# Altium integrated library ind-WE-LHMI (rev21a).IntLib: 164 symbols (part 2 of 3)
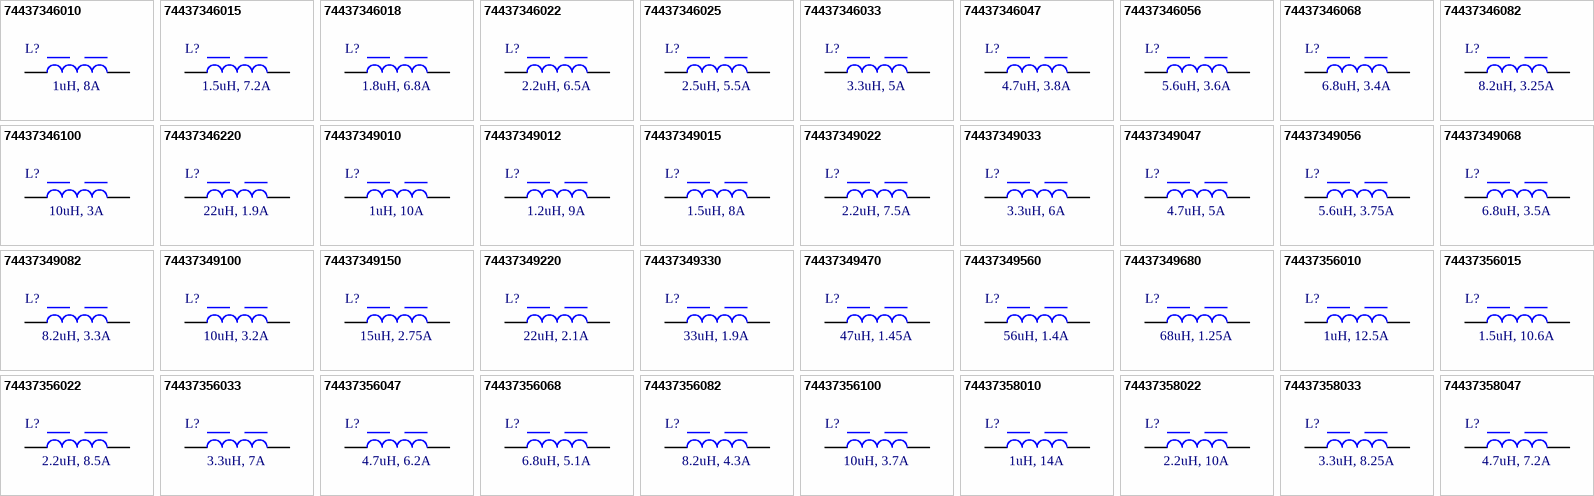
[diagram p5: symbols 74437346010 to 74437358047]

## 74437349560
designator L?, comment 56uH, 1.4A
WE-LHMI SMT Power Inductor, size 7050, 56uH, 1.4A; Manufacturer: Wurth Elektronik; Manufacturer Part Number: 74437349560; Self Resonant Frequency: 6MHz; DC Resistance typ.: 342mOhm; DC Resistance max.: 396mOhm; Saturation Current @30%: 2.7A; ComponentLink1Description: Manufacturer; ComponentLink1URL: http://www.we-online.de; ComponentLink2Description: Datasheet; ComponentLink2URL: https://www.we-online.com/catalog/datasheet/74437349560.pdf; Mounting Technology: SMT; Operating Temperature: -40 to +125degC; Packaging: Tape and Reel; Inductance: 56uH; Rated Current: 1.4A; Saturation Current @10%: 1.4A; Size: 7050; Height: 4.8mm; Length: 6.6mm; Width: 6.6mm
footprint WE-LHMI_7050
pins: 1, 2

## 74437349680
designator L?, comment 68uH, 1.25A
WE-LHMI SMT Power Inductor, size 7050, 68uH, 1.25A; Manufacturer: Wurth Elektronik; Manufacturer Part Number: 74437349680; Self Resonant Frequency: 3.5MHz; DC Resistance typ.: 386mOhm; DC Resistance max.: 445mOhm; Saturation Current @10%: 1.45A; Saturation Current @30%: 3.8A; ComponentLink1Description: Manufacturer; ComponentLink1URL: http://www.we-online.de; ComponentLink2Description: Datasheet; ComponentLink2URL: https://www.we-online.com/catalog/datasheet/74437349680.pdf; Mounting Technology: SMT; Operating Temperature: -40 to +125degC; Packaging: Tape and Reel; Inductance: 68uH; Rated Current: 1.25A; Size: 7050; Height: 4.8mm; Length: 6.6mm; Width: 6.6mm
footprint WE-LHMI_7050
pins: 1, 2

## 74437356010
designator L?, comment 1uH, 12.5A
WE-LHMI SMT Power Inductor, size 8030, 1uH, 12.5A; Manufacturer: Wurth Elektronik; Manufacturer Part Number: 74437356010; Self Resonant Frequency: 44MHz; DC Resistance typ.: 5.1mOhm; DC Resistance max.: 8.35mOhm; Saturation Current @10%: 15.8A; Saturation Current @30%: 34.2A; ComponentLink1Description: Manufacturer; ComponentLink1URL: http://www.we-online.de; ComponentLink2Description: Datasheet; ComponentLink2URL: https://www.we-online.com/catalog/datasheet/74437356010.pdf; Mounting Technology: SMT; Operating Temperature: -40 to +125degC; Packaging: Tape and Reel; Inductance: 1uH; Rated Current: 12.5A; Size: 8030; Height: 3mm; Length: 9.2mm; Width: 8.5mm
footprint WE-LHMI_8030
pins: 1, 2

## 74437356015
designator L?, comment 1.5uH, 10.6A
WE-LHMI SMT Power Inductor, size 8030, 1.5uH, 10.6A; Manufacturer: Wurth Elektronik; Manufacturer Part Number: 74437356015; Self Resonant Frequency: 32MHz; DC Resistance typ.: 8.3mOhm; DC Resistance max.: 13.3mOhm; Saturation Current @10%: 13.5A; Saturation Current @30%: 27.2A; ComponentLink1Description: Manufacturer; ComponentLink1URL: http://www.we-online.de; ComponentLink2Description: Datasheet; ComponentLink2URL: https://www.we-online.com/catalog/datasheet/74437356015.pdf; Mounting Technology: SMT; Operating Temperature: -40 to +125degC; Packaging: Tape and Reel; Inductance: 1.5uH; Rated Current: 10.6A; Size: 8030; Height: 3mm; Length: 9.2mm; Width: 8.5mm
footprint WE-LHMI_8030
pins: 1, 2

## 74437356022
designator L?, comment 2.2uH, 8.5A
WE-LHMI SMT Power Inductor, size 8030, 2.2uH, 8.5A; Manufacturer: Wurth Elektronik; Manufacturer Part Number: 74437356022; Self Resonant Frequency: 24MHz; DC Resistance typ.: 13.6mOhm; DC Resistance max.: 20.3mOhm; Saturation Current @10%: 10A; Saturation Current @30%: 19.6A; ComponentLink1Description: Manufacturer; ComponentLink1URL: http://www.we-online.de; ComponentLink2Description: Datasheet; ComponentLink2URL: https://www.we-online.com/catalog/datasheet/74437356022.pdf; Mounting Technology: SMT; Operating Temperature: -40 to +125degC; Packaging: Tape and Reel; Inductance: 2.2uH; Rated Current: 8.5A; Size: 8030; Height: 3mm; Length: 9.2mm; Width: 8.5mm
footprint WE-LHMI_8030
pins: 1, 2

## 74437356033
designator L?, comment 3.3uH, 7A
WE-LHMI SMT Power Inductor, size 8030, 3.3uH, 7A; Manufacturer: Wurth Elektronik; Manufacturer Part Number: 74437356033; Self Resonant Frequency: 19MHz; DC Resistance typ.: 18.8mOhm; DC Resistance max.: 27.4mOhm; Saturation Current @10%: 8.8A; Saturation Current @30%: 16.1A; ComponentLink1Description: Manufacturer; ComponentLink1URL: http://www.we-online.de; ComponentLink2Description: Datasheet; ComponentLink2URL: https://www.we-online.com/catalog/datasheet/74437356033.pdf; Mounting Technology: SMT; Operating Temperature: -40 to +125degC; Packaging: Tape and Reel; Inductance: 3.3uH; Rated Current: 7A; Size: 8030; Height: 3mm; Length: 9.2mm; Width: 8.5mm
footprint WE-LHMI_8030
pins: 1, 2

## 74437356047
designator L?, comment 4.7uH, 6.2A
WE-LHMI SMT Power Inductor, size 8030, 4.7uH, 6.2A; Manufacturer: Wurth Elektronik; Manufacturer Part Number: 74437356047; Self Resonant Frequency: 16MHz; DC Resistance typ.: 26.6mOhm; DC Resistance max.: 34.2mOhm; Saturation Current @10%: 8.1A; Saturation Current @30%: 15.2A; ComponentLink1Description: Manufacturer; ComponentLink1URL: http://www.we-online.de; ComponentLink2Description: Datasheet; ComponentLink2URL: https://www.we-online.com/catalog/datasheet/74437356047.pdf; Mounting Technology: SMT; Operating Temperature: -40 to +125degC; Packaging: Tape and Reel; Inductance: 4.7uH; Rated Current: 6.2A; Size: 8030; Height: 3mm; Length: 9.2mm; Width: 8.5mm
footprint WE-LHMI_8030
pins: 1, 2

## 74437356068
designator L?, comment 6.8uH, 5.1A
WE-LHMI SMT Power Inductor, size 8030, 6.8uH, 5.1A; Manufacturer: Wurth Elektronik; Manufacturer Part Number: 74437356068; Self Resonant Frequency: 14MHz; DC Resistance typ.: 35.5mOhm; DC Resistance max.: 49.3mOhm; Saturation Current @10%: 6.9A; Saturation Current @30%: 14.2A; ComponentLink1Description: Manufacturer; ComponentLink1URL: http://www.we-online.de; ComponentLink2Description: Datasheet; ComponentLink2URL: https://www.we-online.com/catalog/datasheet/74437356068.pdf; Mounting Technology: SMT; Operating Temperature: -40 to +125degC; Packaging: Tape and Reel; Inductance: 6.8uH; Rated Current: 5.1A; Size: 8030; Height: 3mm; Length: 9.2mm; Width: 8.5mm
footprint WE-LHMI_8030
pins: 1, 2

## 74437356082
designator L?, comment 8.2uH, 4.3A
WE-LHMI SMT Power Inductor, size 8030, 8.2uH, 4.3A; Manufacturer: Wurth Elektronik; Manufacturer Part Number: 74437356082; Self Resonant Frequency: 11MHz; DC Resistance typ.: 56.4mOhm; DC Resistance max.: 59.3mOhm; Saturation Current @10%: 6.3A; Saturation Current @30%: 14A; ComponentLink1Description: Manufacturer; ComponentLink1URL: http://www.we-online.de; ComponentLink2Description: Datasheet; ComponentLink2URL: https://www.we-online.com/catalog/datasheet/74437356082.pdf; Mounting Technology: SMT; Operating Temperature: -40 to +125degC; Packaging: Tape and Reel; Inductance: 8.2uH; Rated Current: 4.3A; Size: 8030; Height: 3mm; Length: 9.2mm; Width: 8.5mm
footprint WE-LHMI_8030
pins: 1, 2

## 74437356100
designator L?, comment 10uH, 3.7A
WE-LHMI SMT Power Inductor, size 8030, 10uH, 3.7A; Manufacturer: Wurth Elektronik; Manufacturer Part Number: 74437356100; Self Resonant Frequency: 10MHz; DC Resistance typ.: 61mOhm; DC Resistance max.: 71.2mOhm; Saturation Current @10%: 6.2A; Saturation Current @30%: 13.4A; ComponentLink1Description: Manufacturer; ComponentLink1URL: http://www.we-online.de; ComponentLink2Description: Datasheet; ComponentLink2URL: https://www.we-online.com/catalog/datasheet/74437356100.pdf; Mounting Technology: SMT; Operating Temperature: -40 to +125degC; Packaging: Tape and Reel; Inductance: 10uH; Rated Current: 3.7A; Size: 8030; Height: 3mm; Length: 9.2mm; Width: 8.5mm
footprint WE-LHMI_8030
pins: 1, 2

## 74437358010
designator L?, comment 1uH, 14A
WE-LHMI SMT Power Inductor, size 8040, 1uH, 14A; Manufacturer: Wurth Elektronik; Manufacturer Part Number: 74437358010; Self Resonant Frequency: 42MHz; DC Resistance typ.: 3.65mOhm; DC Resistance max.: 4.63mOhm; Saturation Current @10%: 20.6A; Saturation Current @30%: 43.1A; ComponentLink1Description: Manufacturer; ComponentLink1URL: http://www.we-online.de; ComponentLink2Description: Datasheet; ComponentLink2URL: https://www.we-online.com/catalog/datasheet/74437358010.pdf; Mounting Technology: SMT; Operating Temperature: -40 to +125degC; Packaging: Tape and Reel; Inductance: 1uH; Rated Current: 14A; Size: 8040; Height: 4mm; Length: 9.2mm; Width: 8.5mm
footprint WE-LHMI_8040
pins: 1, 2

## 74437358022
designator L?, comment 2.2uH, 10A
WE-LHMI SMT Power Inductor, size 8040, 2.2uH, 10A; Manufacturer: Wurth Elektronik; Manufacturer Part Number: 74437358022; Self Resonant Frequency: 29MHz; DC Resistance typ.: 8.7mOhm; DC Resistance max.: 9.41mOhm; Saturation Current @10%: 17.2A; Saturation Current @30%: 36.8A; ComponentLink1Description: Manufacturer; ComponentLink1URL: http://www.we-online.de; ComponentLink2Description: Datasheet; ComponentLink2URL: https://www.we-online.com/catalog/datasheet/74437358022.pdf; Mounting Technology: SMT; Operating Temperature: -40 to +125degC; Packaging: Tape and Reel; Inductance: 2.2uH; Rated Current: 10A; Size: 8040; Height: 4mm; Length: 9.2mm; Width: 8.5mm
footprint WE-LHMI_8040
pins: 1, 2

## 74437358033
designator L?, comment 3.3uH, 8.25A
WE-LHMI SMT Power Inductor, size 8040, 3.3uH, 8.25A; Manufacturer: Wurth Elektronik; Manufacturer Part Number: 74437358033; Self Resonant Frequency: 20MHz; DC Resistance typ.: 12.35mOhm; DC Resistance max.: 14.9mOhm; Saturation Current @10%: 12.4A; Saturation Current @30%: 27A; ComponentLink1Description: Manufacturer; ComponentLink1URL: http://www.we-online.de; ComponentLink2Description: Datasheet; ComponentLink2URL: https://www.we-online.com/catalog/datasheet/74437358033.pdf; Mounting Technology: SMT; Operating Temperature: -40 to +125degC; Packaging: Tape and Reel; Inductance: 3.3uH; Rated Current: 8.25A; Size: 8040; Height: 4mm; Length: 9.2mm; Width: 8.5mm
footprint WE-LHMI_8040
pins: 1, 2

## 74437358047
designator L?, comment 4.7uH, 7.2A
WE-LHMI SMT Power Inductor, size 8040, 4.7uH, 7.2A; Manufacturer: Wurth Elektronik; Manufacturer Part Number: 74437358047; Self Resonant Frequency: 19MHz; DC Resistance typ.: 19.7mOhm; DC Resistance max.: 22.6mOhm; Saturation Current @10%: 10.8A; Saturation Current @30%: 22.9A; ComponentLink1Description: Manufacturer; ComponentLink1URL: http://www.we-online.de; ComponentLink2Description: Datasheet; ComponentLink2URL: https://www.we-online.com/catalog/datasheet/74437358047.pdf; Mounting Technology: SMT; Operating Temperature: -40 to +125degC; Packaging: Tape and Reel; Inductance: 4.7uH; Rated Current: 7.2A; Size: 8040; Height: 4mm; Length: 9.2mm; Width: 8.5mm
footprint WE-LHMI_8040
pins: 1, 2

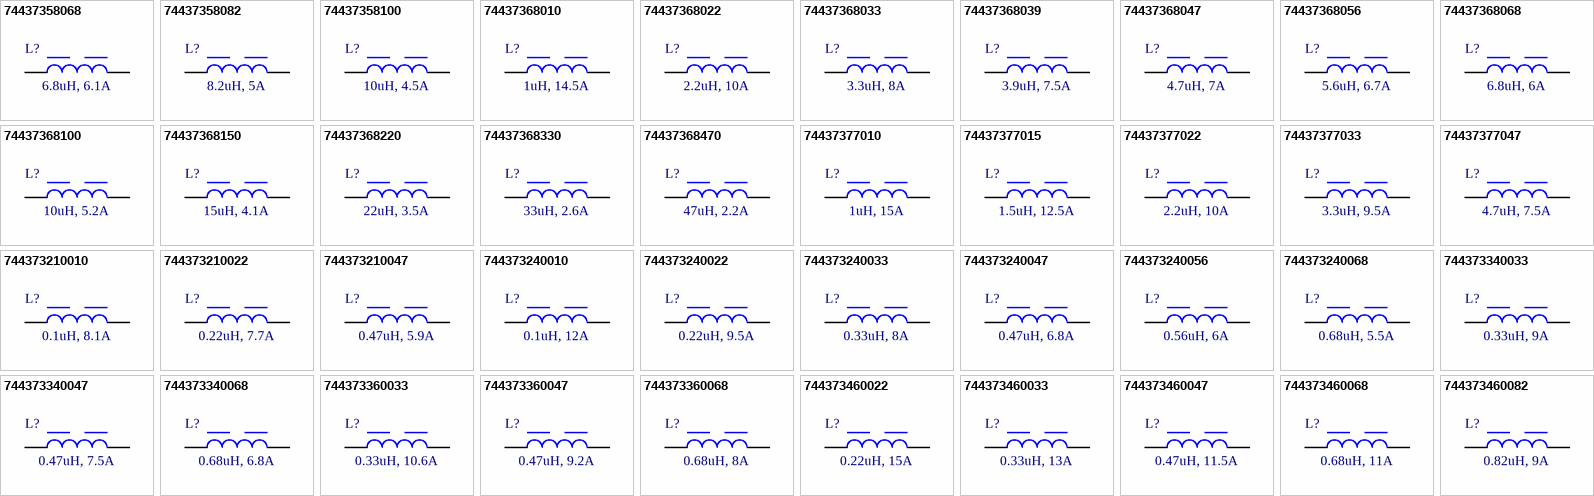
[diagram p2: symbols 74437358068 to 744373460082]

## 74437358068
designator L?, comment 6.8uH, 6.1A
WE-LHMI SMT Power Inductor, size 8040, 6.8uH, 6.1A; Manufacturer: Wurth Elektronik; Manufacturer Part Number: 74437358068; Self Resonant Frequency: 12MHz; DC Resistance typ.: 29.2mOhm; DC Resistance max.: 33.4mOhm; Saturation Current @10%: 8.5A; Saturation Current @30%: 17.7A; ComponentLink1Description: Manufacturer; ComponentLink1URL: http://www.we-online.de; ComponentLink2Description: Datasheet; ComponentLink2URL: https://www.we-online.com/catalog/datasheet/74437358068.pdf; Mounting Technology: SMT; Operating Temperature: -40 to +125degC; Packaging: Tape and Reel; Inductance: 6.8uH; Rated Current: 6.1A; Size: 8040; Height: 4mm; Length: 9.2mm; Width: 8.5mm
footprint WE-LHMI_8040
pins: 1, 2

## 74437358082
designator L?, comment 8.2uH, 5A
WE-LHMI SMT Power Inductor, size 8040, 8.2uH, 5A; Manufacturer: Wurth Elektronik; Manufacturer Part Number: 74437358082; Self Resonant Frequency: 10MHz; DC Resistance typ.: 41.1mOhm; DC Resistance max.: 45mOhm; Saturation Current @10%: 8.6A; Saturation Current @30%: 16.6A; ComponentLink1Description: Manufacturer; ComponentLink1URL: http://www.we-online.de; ComponentLink2Description: Datasheet; ComponentLink2URL: https://www.we-online.com/catalog/datasheet/74437358082.pdf; Mounting Technology: SMT; Operating Temperature: -40 to +125degC; Packaging: Tape and Reel; Inductance: 8.2uH; Rated Current: 5A; Size: 8040; Height: 4mm; Length: 9.2mm; Width: 8.5mm
footprint WE-LHMI_8040
pins: 1, 2

## 74437358100
designator L?, comment 10uH, 4.5A
WE-LHMI SMT Power Inductor, size 8040, 10uH, 4.5A; Manufacturer: Wurth Elektronik; Manufacturer Part Number: 74437358100; Self Resonant Frequency: 9MHz; DC Resistance typ.: 48.1mOhm; DC Resistance max.: 51.8mOhm; Saturation Current @10%: 8.3A; Saturation Current @30%: 15.9A; ComponentLink1Description: Manufacturer; ComponentLink1URL: http://www.we-online.de; ComponentLink2Description: Datasheet; ComponentLink2URL: https://www.we-online.com/catalog/datasheet/74437358100.pdf; Mounting Technology: SMT; Operating Temperature: -40 to +125degC; Packaging: Tape and Reel; Inductance: 10uH; Rated Current: 4.5A; Size: 8040; Height: 4mm; Length: 9.2mm; Width: 8.5mm
footprint WE-LHMI_8040
pins: 1, 2

## 74437368010
designator L?, comment 1uH, 14.5A
WE-LHMI SMT Power Inductor, size 1040, 1uH, 14.5A; Manufacturer: Wurth Elektronik; Manufacturer Part Number: 74437368010; Self Resonant Frequency: 45MHz; DC Resistance typ.: 3mOhm; DC Resistance max.: 3.3mOhm; Saturation Current @10%: 22.7A; Saturation Current @30%: 48.3A; ComponentLink1Description: Manufacturer; ComponentLink1URL: http://www.we-online.de; ComponentLink2Description: Datasheet; ComponentLink2URL: https://www.we-online.com/catalog/datasheet/74437368010.pdf; Mounting Technology: SMT; Operating Temperature: -40 to +125degC; Packaging: Tape and Reel; Inductance: 1uH; Rated Current: 14.5A; Size: 1040; Height: 3.8mm; Length: 10mm; Width: 10mm
footprint WE-LHMI_1040
pins: 1, 2

## 74437368022
designator L?, comment 2.2uH, 10A
WE-LHMI SMT Power Inductor, size 1040, 2.2uH, 10A; Manufacturer: Wurth Elektronik; Manufacturer Part Number: 74437368022; Self Resonant Frequency: 27MHz; DC Resistance typ.: 6.5mOhm; DC Resistance max.: 7mOhm; Saturation Current @10%: 18.1A; Saturation Current @30%: 38.7A; ComponentLink1Description: Manufacturer; ComponentLink1URL: http://www.we-online.de; ComponentLink2Description: Datasheet; ComponentLink2URL: https://www.we-online.com/catalog/datasheet/74437368022.pdf; Mounting Technology: SMT; Operating Temperature: -40 to +125degC; Packaging: Tape and Reel; Inductance: 2.2uH; Rated Current: 10A; Size: 1040; Height: 3.8mm; Length: 10mm; Width: 10mm
footprint WE-LHMI_1040
pins: 1, 2

## 74437368033
designator L?, comment 3.3uH, 8A
WE-LHMI SMT Power Inductor, size 1040, 3.3uH, 8A; Manufacturer: Wurth Elektronik; Manufacturer Part Number: 74437368033; Self Resonant Frequency: 22MHz; DC Resistance typ.: 10.8mOhm; DC Resistance max.: 11.8mOhm; Saturation Current @10%: 15.6A; Saturation Current @30%: 31.2A; ComponentLink1Description: Manufacturer; ComponentLink1URL: http://www.we-online.de; ComponentLink2Description: Datasheet; ComponentLink2URL: https://www.we-online.com/catalog/datasheet/74437368033.pdf; Mounting Technology: SMT; Operating Temperature: -40 to +125degC; Packaging: Tape and Reel; Inductance: 3.3uH; Rated Current: 8A; Size: 1040; Height: 3.8mm; Length: 10mm; Width: 10mm
footprint WE-LHMI_1040
pins: 1, 2

## 74437368039
designator L?, comment 3.9uH, 7.5A
WE-LHMI SMT Power Inductor, size 1040, 3.9uH, 7.5A; Manufacturer: Wurth Elektronik; Manufacturer Part Number: 74437368039; Self Resonant Frequency: 17MHz; DC Resistance typ.: 12.6mOhm; DC Resistance max.: 14.5mOhm; Saturation Current @10%: 12A; Saturation Current @30%: 26.8A; ComponentLink1Description: Manufacturer; ComponentLink1URL: http://www.we-online.de; ComponentLink2Description: Datasheet; ComponentLink2URL: https://www.we-online.com/catalog/datasheet/74437368039.pdf; Mounting Technology: SMT; Operating Temperature: -40 to +125degC; Packaging: Tape and Reel; Inductance: 3.9uH; Rated Current: 7.5A; Size: 1040; Height: 3.8mm; Length: 10mm; Width: 10mm
footprint WE-LHMI_1040
pins: 1, 2

## 74437368047
designator L?, comment 4.7uH, 7A
WE-LHMI SMT Power Inductor, size 1040, 4.7uH, 7A; Manufacturer: Wurth Elektronik; Manufacturer Part Number: 74437368047; Self Resonant Frequency: 16MHz; DC Resistance typ.: 15mOhm; DC Resistance max.: 15.5mOhm; Saturation Current @10%: 11.7A; Saturation Current @30%: 26A; ComponentLink1Description: Manufacturer; ComponentLink1URL: http://www.we-online.de; ComponentLink2Description: Datasheet; ComponentLink2URL: https://www.we-online.com/catalog/datasheet/74437368047.pdf; Mounting Technology: SMT; Operating Temperature: -40 to +125degC; Packaging: Tape and Reel; Inductance: 4.7uH; Rated Current: 7A; Size: 1040; Height: 3.8mm; Length: 10mm; Width: 10mm
footprint WE-LHMI_1040
pins: 1, 2

## 74437368056
designator L?, comment 5.6uH, 6.7A
WE-LHMI SMT Power Inductor, size 1040, 5.6uH, 6.7A; Manufacturer: Wurth Elektronik; Manufacturer Part Number: 74437368056; Self Resonant Frequency: 13MHz; DC Resistance typ.: 17.6mOhm; DC Resistance max.: 19.3mOhm; Saturation Current @10%: 9.4A; Saturation Current @30%: 19.4A; ComponentLink1Description: Manufacturer; ComponentLink1URL: http://www.we-online.de; ComponentLink2Description: Datasheet; ComponentLink2URL: https://www.we-online.com/catalog/datasheet/74437368056.pdf; Mounting Technology: SMT; Operating Temperature: -40 to +125degC; Packaging: Tape and Reel; Inductance: 5.6uH; Rated Current: 6.7A; Size: 1040; Height: 3.8mm; Length: 10mm; Width: 10mm
footprint WE-LHMI_1040
pins: 1, 2

## 74437368068
designator L?, comment 6.8uH, 6A
WE-LHMI SMT Power Inductor, size 1040, 6.8uH, 6A; Manufacturer: Wurth Elektronik; Manufacturer Part Number: 74437368068; Self Resonant Frequency: 13MHz; DC Resistance typ.: 17.5mOhm; DC Resistance max.: 23.3mOhm; Saturation Current @10%: 8A; Saturation Current @30%: 17.4A; ComponentLink1Description: Manufacturer; ComponentLink1URL: http://www.we-online.de; ComponentLink2Description: Datasheet; ComponentLink2URL: https://www.we-online.com/catalog/datasheet/74437368068.pdf; Mounting Technology: SMT; Operating Temperature: -40 to +125degC; Packaging: Tape and Reel; Inductance: 6.8uH; Rated Current: 6A; Size: 1040; Height: 3.8mm; Length: 10mm; Width: 10mm
footprint WE-LHMI_1040
pins: 1, 2

## 74437368100
designator L?, comment 10uH, 5.2A
WE-LHMI SMT Power Inductor, size 1040, 10uH, 5.2A; Manufacturer: Wurth Elektronik; Manufacturer Part Number: 74437368100; Self Resonant Frequency: 12MHz; DC Resistance typ.: 27mOhm; DC Resistance max.: 30mOhm; Saturation Current @10%: 7.9A; Saturation Current @30%: 16.8A; ComponentLink1Description: Manufacturer; ComponentLink1URL: http://www.we-online.de; ComponentLink2Description: Datasheet; ComponentLink2URL: https://www.we-online.com/catalog/datasheet/74437368100.pdf; Mounting Technology: SMT; Operating Temperature: -40 to +125degC; Packaging: Tape and Reel; Inductance: 10uH; Rated Current: 5.2A; Size: 1040; Height: 3.8mm; Length: 10mm; Width: 10mm
footprint WE-LHMI_1040
pins: 1, 2

## 74437368150
designator L?, comment 15uH, 4.1A
WE-LHMI SMT Power Inductor, size 1040, 15uH, 4.1A; Manufacturer: Wurth Elektronik; Manufacturer Part Number: 74437368150; Self Resonant Frequency: 8MHz; DC Resistance typ.: 40mOhm; DC Resistance max.: 45mOhm; Saturation Current @10%: 5.55A; Saturation Current @30%: 11.8A; ComponentLink1Description: Manufacturer; ComponentLink1URL: http://www.we-online.de; ComponentLink2Description: Datasheet; ComponentLink2URL: https://www.we-online.com/catalog/datasheet/74437368150.pdf; Mounting Technology: SMT; Operating Temperature: -40 to +125degC; Packaging: Tape and Reel; Inductance: 15uH; Rated Current: 4.1A; Size: 1040; Height: 3.8mm; Length: 10mm; Width: 10mm
footprint WE-LHMI_1040
pins: 1, 2

## 74437368220
designator L?, comment 22uH, 3.5A
WE-LHMI SMT Power Inductor, size 1040, 22uH, 3.5A; Manufacturer: Wurth Elektronik; Manufacturer Part Number: 74437368220; Self Resonant Frequency: 7MHz; DC Resistance typ.: 64mOhm; DC Resistance max.: 74mOhm; Saturation Current @10%: 5A; Saturation Current @30%: 10.8A; ComponentLink1Description: Manufacturer; ComponentLink1URL: http://www.we-online.de; ComponentLink2Description: Datasheet; ComponentLink2URL: https://www.we-online.com/catalog/datasheet/74437368220.pdf; Mounting Technology: SMT; Operating Temperature: -40 to +125degC; Packaging: Tape and Reel; Inductance: 22uH; Rated Current: 3.5A; Size: 1040; Height: 3.8mm; Length: 10mm; Width: 10mm
footprint WE-LHMI_1040
pins: 1, 2

## 74437368330
designator L?, comment 33uH, 2.6A
WE-LHMI SMT Power Inductor, size 1040, 33uH, 2.6A; Manufacturer: Wurth Elektronik; Manufacturer Part Number: 74437368330; Self Resonant Frequency: 6MHz; DC Resistance typ.: 92mOhm; DC Resistance max.: 112mOhm; Saturation Current @10%: 3.3A; Saturation Current @30%: 7.4A; ComponentLink1Description: Manufacturer; ComponentLink1URL: http://www.we-online.de; ComponentLink2Description: Datasheet; ComponentLink2URL: https://www.we-online.com/catalog/datasheet/74437368330.pdf; Mounting Technology: SMT; Operating Temperature: -40 to +125degC; Packaging: Tape and Reel; Inductance: 33uH; Rated Current: 2.6A; Size: 1040; Height: 3.8mm; Length: 10mm; Width: 10mm
footprint WE-LHMI_1040
pins: 1, 2

## 74437368470
designator L?, comment 47uH, 2.2A
WE-LHMI SMT Power Inductor, size 1040, 47uH, 2.2A; Manufacturer: Wurth Elektronik; Manufacturer Part Number: 74437368470; Self Resonant Frequency: 5MHz; DC Resistance typ.: 145mOhm; DC Resistance max.: 167mOhm; Saturation Current @10%: 2.55A; Saturation Current @30%: 6.7A; ComponentLink1Description: Manufacturer; ComponentLink1URL: http://www.we-online.de; ComponentLink2Description: Datasheet; ComponentLink2URL: https://www.we-online.com/catalog/datasheet/74437368470.pdf; Mounting Technology: SMT; Operating Temperature: -40 to +125degC; Packaging: Tape and Reel; Inductance: 47uH; Rated Current: 2.2A; Size: 1040; Height: 3.8mm; Length: 10mm; Width: 10mm
footprint WE-LHMI_1040
pins: 1, 2

## 74437377010
designator L?, comment 1uH, 15A
WE-LHMI SMT Power Inductor, size 1335, 1uH, 15A; Manufacturer: Wurth Elektronik; Manufacturer Part Number: 74437377010; Self Resonant Frequency: 41MHz; DC Resistance typ.: 2.7mOhm; DC Resistance max.: 3.5mOhm; Saturation Current @10%: 15.4A; Saturation Current @30%: 38A; ComponentLink1Description: Manufacturer; ComponentLink1URL: http://www.we-online.de; ComponentLink2Description: Datasheet; ComponentLink2URL: https://www.we-online.com/catalog/datasheet/74437377010.pdf; Mounting Technology: SMT; Operating Temperature: -40 to +125degC; Packaging: Tape and Reel; Inductance: 1uH; Rated Current: 15A; Size: 1335; Height: 3.3mm; Length: 12.6mm; Width: 12.6mm
footprint WE-LHMI_1335
pins: 1, 2

## 74437377015
designator L?, comment 1.5uH, 12.5A
WE-LHMI SMT Power Inductor, size 1335, 1.5uH, 12.5A; Manufacturer: Wurth Elektronik; Manufacturer Part Number: 74437377015; Self Resonant Frequency: 30MHz; DC Resistance typ.: 4.7mOhm; DC Resistance max.: 5.5mOhm; Saturation Current @10%: 14.3A; Saturation Current @30%: 33.8A; ComponentLink1Description: Manufacturer; ComponentLink1URL: http://www.we-online.de; ComponentLink2Description: Datasheet; ComponentLink2URL: https://www.we-online.com/catalog/datasheet/74437377015.pdf; Mounting Technology: SMT; Operating Temperature: -40 to +125degC; Packaging: Tape and Reel; Inductance: 1.5uH; Rated Current: 12.5A; Size: 1335; Height: 3.3mm; Length: 12.6mm; Width: 12.6mm
footprint WE-LHMI_1335
pins: 1, 2

## 74437377022
designator L?, comment 2.2uH, 10A
WE-LHMI SMT Power Inductor, size 1335, 2.2uH, 10A; Manufacturer: Wurth Elektronik; Manufacturer Part Number: 74437377022; Self Resonant Frequency: 22MHz; DC Resistance typ.: 7.2mOhm; DC Resistance max.: 8mOhm; Saturation Current @10%: 14.2A; Saturation Current @30%: 31.2A; ComponentLink1Description: Manufacturer; ComponentLink1URL: http://www.we-online.de; ComponentLink2Description: Datasheet; ComponentLink2URL: https://www.we-online.com/catalog/datasheet/74437377022.pdf; Mounting Technology: SMT; Operating Temperature: -40 to +125degC; Packaging: Tape and Reel; Inductance: 2.2uH; Rated Current: 10A; Size: 1335; Height: 3.3mm; Length: 12.6mm; Width: 12.6mm
footprint WE-LHMI_1335
pins: 1, 2

## 74437377033
designator L?, comment 3.3uH, 9.5A
WE-LHMI SMT Power Inductor, size 1335, 3.3uH, 9.5A; Manufacturer: Wurth Elektronik; Manufacturer Part Number: 74437377033; Self Resonant Frequency: 17MHz; DC Resistance typ.: 9mOhm; DC Resistance max.: 11mOhm; Saturation Current @10%: 13.3A; Saturation Current @30%: 30.9A; ComponentLink1Description: Manufacturer; ComponentLink1URL: http://www.we-online.de; ComponentLink2Description: Datasheet; ComponentLink2URL: https://www.we-online.com/catalog/datasheet/74437377033.pdf; Mounting Technology: SMT; Operating Temperature: -40 to +125degC; Packaging: Tape and Reel; Inductance: 3.3uH; Rated Current: 9.5A; Size: 1335; Height: 3.3mm; Length: 12.6mm; Width: 12.6mm
footprint WE-LHMI_1335
pins: 1, 2

## 74437377047
designator L?, comment 4.7uH, 7.5A
WE-LHMI SMT Power Inductor, size 1335, 4.7uH, 7.5A; Manufacturer: Wurth Elektronik; Manufacturer Part Number: 74437377047; Self Resonant Frequency: 13MHz; DC Resistance typ.: 13mOhm; DC Resistance max.: 15mOhm; Saturation Current @10%: 12A; Saturation Current @30%: 25.1A; ComponentLink1Description: Manufacturer; ComponentLink1URL: http://www.we-online.de; ComponentLink2Description: Datasheet; ComponentLink2URL: https://www.we-online.com/catalog/datasheet/74437377047.pdf; Mounting Technology: SMT; Operating Temperature: -40 to +125degC; Packaging: Tape and Reel; Inductance: 4.7uH; Rated Current: 7.5A; Size: 1335; Height: 3.3mm; Length: 12.6mm; Width: 12.6mm
footprint WE-LHMI_1335
pins: 1, 2

## 744373210010
designator L?, comment 0.1uH, 8.1A
WE-LHMI SMT Power Inductor, size 4012, 0.1uH, 8.1A; Manufacturer: Wurth Elektronik; Manufacturer Part Number: 744373210010; Self Resonant Frequency: 365MHz; DC Resistance typ.: 4.3mOhm; DC Resistance max.: 5.5mOhm; Saturation Current @10%: 16.1A; Saturation Current @30%: 29.6A; ComponentLink1Description: Manufacturer; ComponentLink1URL: http://www.we-online.de; ComponentLink2Description: Datasheet; ComponentLink2URL: https://www.we-online.com/catalog/datasheet/744373210010.pdf; Mounting Technology: SMT; Operating Temperature: -40 to +125degC; Packaging: Tape and Reel; Inductance: 0.1uH; Rated Current: 8.1A; Size: 4012; Height: 1mm; Length: 4.06mm; Width: 4.06mm
footprint WE-LHMI_4012
pins: 1, 2

## 744373210022
designator L?, comment 0.22uH, 7.7A
WE-LHMI SMT Power Inductor, size 4012, 0.22uH, 7.7A; Manufacturer: Wurth Elektronik; Manufacturer Part Number: 744373210022; Self Resonant Frequency: 230MHz; DC Resistance typ.: 6.6mOhm; DC Resistance max.: 8mOhm; Saturation Current @10%: 11.1A; Saturation Current @30%: 21.5A; ComponentLink1Description: Manufacturer; ComponentLink1URL: http://www.we-online.de; ComponentLink2Description: Datasheet; ComponentLink2URL: https://www.we-online.com/catalog/datasheet/744373210022.pdf; Mounting Technology: SMT; Operating Temperature: -40 to +125degC; Packaging: Tape and Reel; Inductance: 0.22uH; Rated Current: 7.7A; Size: 4012; Height: 1mm; Length: 4.06mm; Width: 4.06mm
footprint WE-LHMI_4012
pins: 1, 2

## 744373210047
designator L?, comment 0.47uH, 5.9A
WE-LHMI SMT Power Inductor, size 4012, 0.47uH, 5.9A; Manufacturer: Wurth Elektronik; Manufacturer Part Number: 744373210047; Self Resonant Frequency: 120MHz; DC Resistance typ.: 18mOhm; DC Resistance max.: 20mOhm; Saturation Current @10%: 6.8A; Saturation Current @30%: 12.5A; ComponentLink1Description: Manufacturer; ComponentLink1URL: http://www.we-online.de; ComponentLink2Description: Datasheet; ComponentLink2URL: https://www.we-online.com/catalog/datasheet/744373210047.pdf; Mounting Technology: SMT; Operating Temperature: -40 to +125degC; Packaging: Tape and Reel; Inductance: 0.47uH; Rated Current: 5.9A; Size: 4012; Height: 1mm; Length: 4.06mm; Width: 4.06mm
footprint WE-LHMI_4012
pins: 1, 2

## 744373240010
designator L?, comment 0.1uH, 12A
WE-LHMI SMT Power Inductor, size 4020, 0.1uH, 12A; Manufacturer: Wurth Elektronik; Manufacturer Part Number: 744373240010; Self Resonant Frequency: 323MHz; DC Resistance typ.: 3.2mOhm; DC Resistance max.: 4mOhm; Saturation Current @10%: 20.9A; Saturation Current @30%: 37.6A; ComponentLink1Description: Manufacturer; ComponentLink1URL: http://www.we-online.de; ComponentLink2Description: Datasheet; ComponentLink2URL: https://www.we-online.com/catalog/datasheet/744373240010.pdf; Mounting Technology: SMT; Operating Temperature: -40 to +125degC; Packaging: Tape and Reel; Inductance: 0.1uH; Rated Current: 12A; Size: 4020; Height: 1.8mm; Length: 4.06mm; Width: 4.06mm
footprint WE-LHMI_4020
pins: 1, 2

## 744373240022
designator L?, comment 0.22uH, 9.5A
WE-LHMI SMT Power Inductor, size 4020, 0.22uH, 9.5A; Manufacturer: Wurth Elektronik; Manufacturer Part Number: 744373240022; Self Resonant Frequency: 195MHz; DC Resistance typ.: 6.6mOhm; DC Resistance max.: 7.3mOhm; Saturation Current @10%: 10.8A; Saturation Current @30%: 22.3A; ComponentLink1Description: Manufacturer; ComponentLink1URL: http://www.we-online.de; ComponentLink2Description: Datasheet; ComponentLink2URL: https://www.we-online.com/catalog/datasheet/744373240022.pdf; Mounting Technology: SMT; Operating Temperature: -40 to +125degC; Packaging: Tape and Reel; Inductance: 0.22uH; Rated Current: 9.5A; Size: 4020; Height: 1.8mm; Length: 4.06mm; Width: 4.06mm
footprint WE-LHMI_4020
pins: 1, 2

## 744373240033
designator L?, comment 0.33uH, 8A
WE-LHMI SMT Power Inductor, size 4020, 0.33uH, 8A; Manufacturer: Wurth Elektronik; Manufacturer Part Number: 744373240033; Self Resonant Frequency: 143MHz; DC Resistance typ.: 7.8mOhm; DC Resistance max.: 8.6mOhm; Saturation Current @10%: 11.2A; Saturation Current @30%: 22A; ComponentLink1Description: Manufacturer; ComponentLink1URL: http://www.we-online.de; ComponentLink2Description: Datasheet; ComponentLink2URL: https://www.we-online.com/catalog/datasheet/744373240033.pdf; Mounting Technology: SMT; Operating Temperature: -40 to +125degC; Packaging: Tape and Reel; Inductance: 0.33uH; Rated Current: 8A; Size: 4020; Height: 1.8mm; Length: 4.06mm; Width: 4.06mm
footprint WE-LHMI_4020
pins: 1, 2

## 744373240047
designator L?, comment 0.47uH, 6.8A
WE-LHMI SMT Power Inductor, size 4020, 0.47uH, 6.8A; Manufacturer: Wurth Elektronik; Manufacturer Part Number: 744373240047; Self Resonant Frequency: 122MHz; DC Resistance typ.: 11.2mOhm; DC Resistance max.: 14mOhm; Saturation Current @10%: 10.4A; Saturation Current @30%: 19.6A; ComponentLink1Description: Manufacturer; ComponentLink1URL: http://www.we-online.de; ComponentLink2Description: Datasheet; ComponentLink2URL: https://www.we-online.com/catalog/datasheet/744373240047.pdf; Mounting Technology: SMT; Operating Temperature: -40 to +125degC; Packaging: Tape and Reel; Inductance: 0.47uH; Rated Current: 6.8A; Size: 4020; Height: 1.8mm; Length: 4.06mm; Width: 4.06mm
footprint WE-LHMI_4020
pins: 1, 2

## 744373240056
designator L?, comment 0.56uH, 6A
WE-LHMI SMT Power Inductor, size 4020, 0.56uH, 6A; Manufacturer: Wurth Elektronik; Manufacturer Part Number: 744373240056; Self Resonant Frequency: 104MHz; DC Resistance typ.: 13.5mOhm; DC Resistance max.: 16mOhm; Saturation Current @10%: 6.7A; Saturation Current @30%: 13A; ComponentLink1Description: Manufacturer; ComponentLink1URL: http://www.we-online.de; ComponentLink2Description: Datasheet; ComponentLink2URL: https://www.we-online.com/catalog/datasheet/744373240056.pdf; Mounting Technology: SMT; Operating Temperature: -40 to +125degC; Packaging: Tape and Reel; Inductance: 0.56uH; Rated Current: 6A; Size: 4020; Height: 1.8mm; Length: 4.06mm; Width: 4.06mm
footprint WE-LHMI_4020
pins: 1, 2

## 744373240068
designator L?, comment 0.68uH, 5.5A
WE-LHMI SMT Power Inductor, size 4020, 0.68uH, 5.5A; Manufacturer: Wurth Elektronik; Manufacturer Part Number: 744373240068; Self Resonant Frequency: 90MHz; DC Resistance typ.: 16mOhm; DC Resistance max.: 19mOhm; Saturation Current @10%: 7.1A; Saturation Current @30%: 14A; ComponentLink1Description: Manufacturer; ComponentLink1URL: http://www.we-online.de; ComponentLink2Description: Datasheet; ComponentLink2URL: https://www.we-online.com/catalog/datasheet/744373240068.pdf; Mounting Technology: SMT; Operating Temperature: -40 to +125degC; Packaging: Tape and Reel; Inductance: 0.68uH; Rated Current: 5.5A; Size: 4020; Height: 1.8mm; Length: 4.06mm; Width: 4.06mm
footprint WE-LHMI_4020
pins: 1, 2

## 744373340033
designator L?, comment 0.33uH, 9A
WE-LHMI SMT Power Inductor, size 5020, 0.33uH, 9A; Manufacturer: Wurth Elektronik; Manufacturer Part Number: 744373340033; Self Resonant Frequency: 100MHz; DC Resistance typ.: 6.3mOhm; DC Resistance max.: 7.3mOhm; Saturation Current @10%: 14.7A; Saturation Current @30%: 29.3A; ComponentLink1Description: Manufacturer; ComponentLink1URL: http://www.we-online.de; ComponentLink2Description: Datasheet; ComponentLink2URL: https://www.we-online.com/catalog/datasheet/744373340033.pdf; Mounting Technology: SMT; Operating Temperature: -40 to +125degC; Packaging: Tape and Reel; Inductance: 0.33uH; Rated Current: 9A; Size: 5020; Height: 1.8mm; Length: 5.2mm; Width: 5.2mm
footprint WE-LHMI_5020
pins: 1, 2

## 744373340047
designator L?, comment 0.47uH, 7.5A
WE-LHMI SMT Power Inductor, size 5020, 0.47uH, 7.5A; Manufacturer: Wurth Elektronik; Manufacturer Part Number: 744373340047; Self Resonant Frequency: 95MHz; DC Resistance typ.: 7.3mOhm; DC Resistance max.: 8.6mOhm; Saturation Current @10%: 9.6A; Saturation Current @30%: 19.8A; ComponentLink1Description: Manufacturer; ComponentLink1URL: http://www.we-online.de; ComponentLink2Description: Datasheet; ComponentLink2URL: https://www.we-online.com/catalog/datasheet/744373340047.pdf; Mounting Technology: SMT; Operating Temperature: -40 to +125degC; Packaging: Tape and Reel; Inductance: 0.47uH; Rated Current: 7.5A; Size: 5020; Height: 1.8mm; Length: 5.2mm; Width: 5.2mm
footprint WE-LHMI_5020
pins: 1, 2

## 744373340068
designator L?, comment 0.68uH, 6.8A
WE-LHMI SMT Power Inductor, size 5020, 0.68uH, 6.8A; Manufacturer: Wurth Elektronik; Manufacturer Part Number: 744373340068; Self Resonant Frequency: 90MHz; DC Resistance typ.: 11mOhm; DC Resistance max.: 12.4mOhm; Saturation Current @10%: 9.8A; Saturation Current @30%: 17.8A; ComponentLink1Description: Manufacturer; ComponentLink1URL: http://www.we-online.de; ComponentLink2Description: Datasheet; ComponentLink2URL: https://www.we-online.com/catalog/datasheet/744373340068.pdf; Mounting Technology: SMT; Operating Temperature: -40 to +125degC; Packaging: Tape and Reel; Inductance: 0.68uH; Rated Current: 6.8A; Size: 5020; Height: 1.8mm; Length: 5.2mm; Width: 5.2mm
footprint WE-LHMI_5020
pins: 1, 2

## 744373360033
designator L?, comment 0.33uH, 10.6A
WE-LHMI SMT Power Inductor, size 5030, 0.33uH, 10.6A; Manufacturer: Wurth Elektronik; Manufacturer Part Number: 744373360033; Self Resonant Frequency: 120MHz; DC Resistance typ.: 4.3mOhm; DC Resistance max.: 5mOhm; Saturation Current @10%: 15A; Saturation Current @30%: 29.3A; ComponentLink1Description: Manufacturer; ComponentLink1URL: http://www.we-online.de; ComponentLink2Description: Datasheet; ComponentLink2URL: https://www.we-online.com/catalog/datasheet/744373360033.pdf; Mounting Technology: SMT; Operating Temperature: -40 to +125degC; Packaging: Tape and Reel; Inductance: 0.33uH; Rated Current: 10.6A; Size: 5030; Height: 2.8mm; Length: 5.2mm; Width: 5.2mm
footprint WE-LHMI_5030
pins: 1, 2

## 744373360047
designator L?, comment 0.47uH, 9.2A
WE-LHMI SMT Power Inductor, size 5030, 0.47uH, 9.2A; Manufacturer: Wurth Elektronik; Manufacturer Part Number: 744373360047; Self Resonant Frequency: 100MHz; DC Resistance typ.: 6.4mOhm; DC Resistance max.: 7.4mOhm; Saturation Current @10%: 10.8A; Saturation Current @30%: 21.5A; ComponentLink1Description: Manufacturer; ComponentLink1URL: http://www.we-online.de; ComponentLink2Description: Datasheet; ComponentLink2URL: https://www.we-online.com/catalog/datasheet/744373360047.pdf; Mounting Technology: SMT; Operating Temperature: -40 to +125degC; Packaging: Tape and Reel; Inductance: 0.47uH; Rated Current: 9.2A; Size: 5030; Height: 2.8mm; Length: 5.2mm; Width: 5.2mm
footprint WE-LHMI_5030
pins: 1, 2

## 744373360068
designator L?, comment 0.68uH, 8A
WE-LHMI SMT Power Inductor, size 5030, 0.68uH, 8A; Manufacturer: Wurth Elektronik; Manufacturer Part Number: 744373360068; Self Resonant Frequency: 90MHz; DC Resistance typ.: 10mOhm; DC Resistance max.: 12mOhm; Saturation Current @10%: 10.2A; Saturation Current @30%: 19.3A; ComponentLink1Description: Manufacturer; ComponentLink1URL: http://www.we-online.de; ComponentLink2Description: Datasheet; ComponentLink2URL: https://www.we-online.com/catalog/datasheet/744373360068.pdf; Mounting Technology: SMT; Operating Temperature: -40 to +125degC; Packaging: Tape and Reel; Inductance: 0.68uH; Rated Current: 8A; Size: 5030; Height: 2.8mm; Length: 5.2mm; Width: 5.2mm
footprint WE-LHMI_5030
pins: 1, 2

## 744373460022
designator L?, comment 0.22uH, 15A
WE-LHMI SMT Power Inductor, size 7030, 0.22uH, 15A; Manufacturer: Wurth Elektronik; Manufacturer Part Number: 744373460022; Self Resonant Frequency: 149MHz; DC Resistance typ.: 2.1mOhm; DC Resistance max.: 2.8mOhm; Saturation Current @10%: 29.9A; Saturation Current @30%: 54.3A; ComponentLink1Description: Manufacturer; ComponentLink1URL: http://www.we-online.de; ComponentLink2Description: Datasheet; ComponentLink2URL: https://www.we-online.com/catalog/datasheet/744373460022.pdf; Mounting Technology: SMT; Operating Temperature: -40 to +125degC; Packaging: Tape and Reel; Inductance: 0.22uH; Rated Current: 15A; Size: 7030; Height: 2.8mm; Length: 6.6mm; Width: 6.6mm
footprint WE-LHMI_7030
pins: 1, 2

## 744373460033
designator L?, comment 0.33uH, 13A
WE-LHMI SMT Power Inductor, size 7030, 0.33uH, 13A; Manufacturer: Wurth Elektronik; Manufacturer Part Number: 744373460033; Self Resonant Frequency: 124MHz; DC Resistance typ.: 3.5mOhm; DC Resistance max.: 3.9mOhm; Saturation Current @10%: 27.1A; Saturation Current @30%: 47A; ComponentLink1Description: Manufacturer; ComponentLink1URL: http://www.we-online.de; ComponentLink2Description: Datasheet; ComponentLink2URL: https://www.we-online.com/catalog/datasheet/744373460033.pdf; Mounting Technology: SMT; Operating Temperature: -40 to +125degC; Packaging: Tape and Reel; Inductance: 0.33uH; Rated Current: 13A; Size: 7030; Height: 2.8mm; Length: 6.6mm; Width: 6.6mm
footprint WE-LHMI_7030
pins: 1, 2

## 744373460047
designator L?, comment 0.47uH, 11.5A
WE-LHMI SMT Power Inductor, size 7030, 0.47uH, 11.5A; Manufacturer: Wurth Elektronik; Manufacturer Part Number: 744373460047; Self Resonant Frequency: 91MHz; DC Resistance typ.: 4mOhm; DC Resistance max.: 4.2mOhm; Saturation Current @10%: 21.4A; Saturation Current @30%: 37.8A; ComponentLink1Description: Manufacturer; ComponentLink1URL: http://www.we-online.de; ComponentLink2Description: Datasheet; ComponentLink2URL: https://www.we-online.com/catalog/datasheet/744373460047.pdf; Mounting Technology: SMT; Operating Temperature: -40 to +125degC; Packaging: Tape and Reel; Inductance: 0.47uH; Rated Current: 11.5A; Size: 7030; Height: 2.8mm; Length: 6.6mm; Width: 6.6mm
footprint WE-LHMI_7030
pins: 1, 2

## 744373460068
designator L?, comment 0.68uH, 11A
WE-LHMI SMT Power Inductor, size 7030, 0.68uH, 11A; Manufacturer: Wurth Elektronik; Manufacturer Part Number: 744373460068; Self Resonant Frequency: 72MHz; DC Resistance typ.: 4.8mOhm; DC Resistance max.: 5.5mOhm; Saturation Current @10%: 15.9A; Saturation Current @30%: 31.6A; ComponentLink1Description: Manufacturer; ComponentLink1URL: http://www.we-online.de; ComponentLink2Description: Datasheet; ComponentLink2URL: https://www.we-online.com/catalog/datasheet/744373460068.pdf; Mounting Technology: SMT; Operating Temperature: -40 to +125degC; Packaging: Tape and Reel; Inductance: 0.68uH; Rated Current: 11A; Size: 7030; Height: 2.8mm; Length: 6.6mm; Width: 6.6mm
footprint WE-LHMI_7030
pins: 1, 2

## 744373460082
designator L?, comment 0.82uH, 9A
WE-LHMI SMT Power Inductor, size 7030, 0.82uH, 9A; Manufacturer: Wurth Elektronik; Manufacturer Part Number: 744373460082; Self Resonant Frequency: 60MHz; DC Resistance typ.: 6.7mOhm; DC Resistance max.: 8mOhm; Saturation Current @10%: 15A; Saturation Current @30%: 31.9A; ComponentLink1Description: Manufacturer; ComponentLink1URL: http://www.we-online.de; ComponentLink2Description: Datasheet; ComponentLink2URL: https://www.we-online.com/catalog/datasheet/744373460082.pdf; Mounting Technology: SMT; Operating Temperature: -40 to +125degC; Packaging: Tape and Reel; Inductance: 0.82uH; Rated Current: 9A; Size: 7030; Height: 2.8mm; Length: 6.6mm; Width: 6.6mm
footprint WE-LHMI_7030
pins: 1, 2

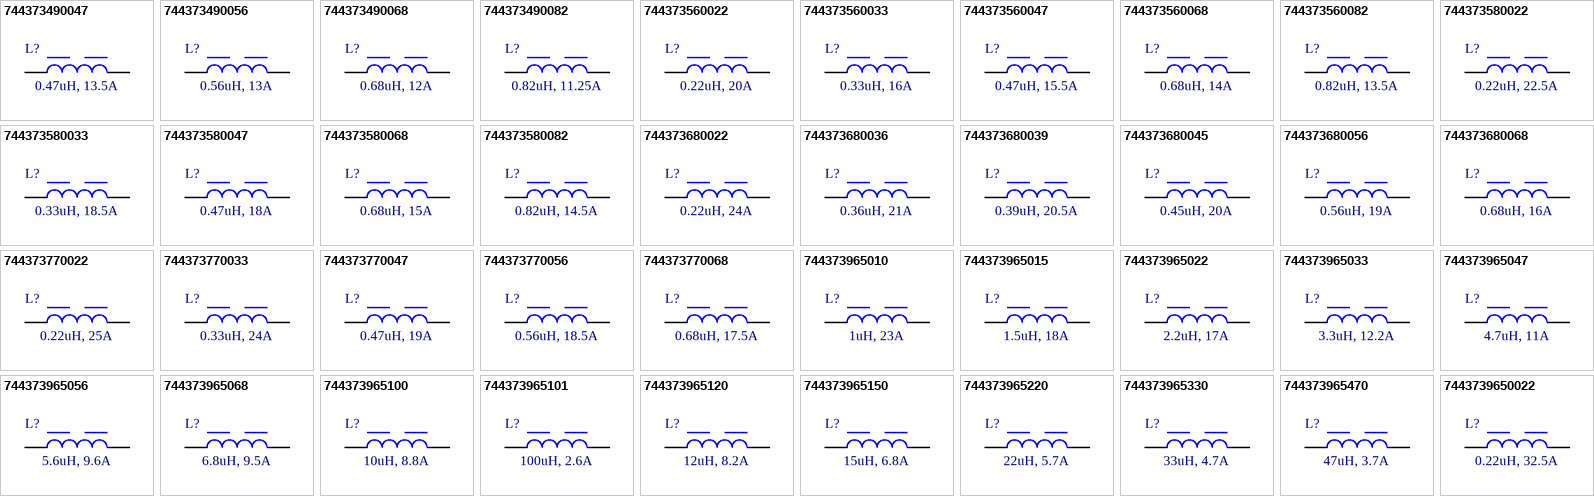
[diagram p3: symbols 744373490047 to 7443739650022]

## 744373490047
designator L?, comment 0.47uH, 13.5A
WE-LHMI SMT Power Inductor, size 7050, 0.47uH, 13.5A; Manufacturer: Wurth Elektronik; Manufacturer Part Number: 744373490047; Self Resonant Frequency: 96MHz; DC Resistance typ.: 3.5mOhm; DC Resistance max.: 3.9mOhm; Saturation Current @10%: 20A; Saturation Current @30%: 41.6A; ComponentLink1Description: Manufacturer; ComponentLink1URL: http://www.we-online.de; ComponentLink2Description: Datasheet; ComponentLink2URL: https://www.we-online.com/catalog/datasheet/744373490047.pdf; Mounting Technology: SMT; Operating Temperature: -40 to +125degC; Packaging: Tape and Reel; Inductance: 0.47uH; Rated Current: 13.5A; Size: 7050; Height: 4.8mm; Length: 6.6mm; Width: 6.6mm
footprint WE-LHMI_7050
pins: 1, 2

## 744373490056
designator L?, comment 0.56uH, 13A
WE-LHMI SMT Power Inductor, size 7050, 0.56uH, 13A; Manufacturer: Wurth Elektronik; Manufacturer Part Number: 744373490056; Self Resonant Frequency: 85MHz; DC Resistance typ.: 3.6mOhm; DC Resistance max.: 4.2mOhm; Saturation Current @10%: 19.9A; Saturation Current @30%: 36.4A; ComponentLink1Description: Manufacturer; ComponentLink1URL: http://www.we-online.de; ComponentLink2Description: Datasheet; ComponentLink2URL: https://www.we-online.com/catalog/datasheet/744373490056.pdf; Mounting Technology: SMT; Operating Temperature: -40 to +125degC; Packaging: Tape and Reel; Inductance: 0.56uH; Rated Current: 13A; Size: 7050; Height: 4.8mm; Length: 6.6mm; Width: 6.6mm
footprint WE-LHMI_7050
pins: 1, 2

## 744373490068
designator L?, comment 0.68uH, 12A
WE-LHMI SMT Power Inductor, size 7050, 0.68uH, 12A; Manufacturer: Wurth Elektronik; Manufacturer Part Number: 744373490068; Self Resonant Frequency: 73MHz; DC Resistance typ.: 4mOhm; DC Resistance max.: 4.5mOhm; Saturation Current @10%: 18.8A; Saturation Current @30%: 33.8A; ComponentLink1Description: Manufacturer; ComponentLink1URL: http://www.we-online.de; ComponentLink2Description: Datasheet; ComponentLink2URL: https://www.we-online.com/catalog/datasheet/744373490068.pdf; Mounting Technology: SMT; Operating Temperature: -40 to +125degC; Packaging: Tape and Reel; Inductance: 0.68uH; Rated Current: 12A; Size: 7050; Height: 4.8mm; Length: 6.6mm; Width: 6.6mm
footprint WE-LHMI_7050
pins: 1, 2

## 744373490082
designator L?, comment 0.82uH, 11.25A
WE-LHMI SMT Power Inductor, size 7050, 0.82uH, 11.25A; Manufacturer: Wurth Elektronik; Manufacturer Part Number: 744373490082; Self Resonant Frequency: 70MHz; DC Resistance typ.: 4.6mOhm; DC Resistance max.: 4.9mOhm; Saturation Current @10%: 17.4A; Saturation Current @30%: 31.6A; ComponentLink1Description: Manufacturer; ComponentLink1URL: http://www.we-online.de; ComponentLink2Description: Datasheet; ComponentLink2URL: https://www.we-online.com/catalog/datasheet/744373490082.pdf; Mounting Technology: SMT; Operating Temperature: -40 to +125degC; Packaging: Tape and Reel; Inductance: 0.82uH; Rated Current: 11.25A; Size: 7050; Height: 4.8mm; Length: 6.6mm; Width: 6.6mm
footprint WE-LHMI_7050
pins: 1, 2

## 744373560022
designator L?, comment 0.22uH, 20A
WE-LHMI SMT Power Inductor, size 8030, 0.22uH, 20A; Manufacturer: Wurth Elektronik; Manufacturer Part Number: 744373560022; Self Resonant Frequency: 110MHz; DC Resistance typ.: 1.47mOhm; DC Resistance max.: 1.61mOhm; Saturation Current @10%: 32.1A; Saturation Current @30%: 63.4A; ComponentLink1Description: Manufacturer; ComponentLink1URL: http://www.we-online.de; ComponentLink2Description: Datasheet; ComponentLink2URL: https://www.we-online.com/catalog/datasheet/744373560022.pdf; Mounting Technology: SMT; Operating Temperature: -40 to +125degC; Packaging: Tape and Reel; Inductance: 0.22uH; Rated Current: 20A; Size: 8030; Height: 3mm; Length: 9.2mm; Width: 8.5mm
footprint WE-LHMI_8030
pins: 1, 2

## 744373560033
designator L?, comment 0.33uH, 16A
WE-LHMI SMT Power Inductor, size 8030, 0.33uH, 16A; Manufacturer: Wurth Elektronik; Manufacturer Part Number: 744373560033; Self Resonant Frequency: 95MHz; DC Resistance typ.: 2.06mOhm; DC Resistance max.: 2.57mOhm; Saturation Current @10%: 26.2A; Saturation Current @30%: 51.9A; ComponentLink1Description: Manufacturer; ComponentLink1URL: http://www.we-online.de; ComponentLink2Description: Datasheet; ComponentLink2URL: https://www.we-online.com/catalog/datasheet/744373560033.pdf; Mounting Technology: SMT; Operating Temperature: -40 to +125degC; Packaging: Tape and Reel; Inductance: 0.33uH; Rated Current: 16A; Size: 8030; Height: 3mm; Length: 9.2mm; Width: 8.5mm
footprint WE-LHMI_8030
pins: 1, 2

## 744373560047
designator L?, comment 0.47uH, 15.5A
WE-LHMI SMT Power Inductor, size 8030, 0.47uH, 15.5A; Manufacturer: Wurth Elektronik; Manufacturer Part Number: 744373560047; Self Resonant Frequency: 72MHz; DC Resistance typ.: 2.35mOhm; DC Resistance max.: 3.33mOhm; Saturation Current @10%: 22A; Saturation Current @30%: 44.7A; ComponentLink1Description: Manufacturer; ComponentLink1URL: http://www.we-online.de; ComponentLink2Description: Datasheet; ComponentLink2URL: https://www.we-online.com/catalog/datasheet/744373560047.pdf; Mounting Technology: SMT; Operating Temperature: -40 to +125degC; Packaging: Tape and Reel; Inductance: 0.47uH; Rated Current: 15.5A; Size: 8030; Height: 3mm; Length: 9.2mm; Width: 8.5mm
footprint WE-LHMI_8030
pins: 1, 2

## 744373560068
designator L?, comment 0.68uH, 14A
WE-LHMI SMT Power Inductor, size 8030, 0.68uH, 14A; Manufacturer: Wurth Elektronik; Manufacturer Part Number: 744373560068; Self Resonant Frequency: 53MHz; DC Resistance typ.: 3.65mOhm; DC Resistance max.: 3.99mOhm; Saturation Current @10%: 21A; Saturation Current @30%: 43A; ComponentLink1Description: Manufacturer; ComponentLink1URL: http://www.we-online.de; ComponentLink2Description: Datasheet; ComponentLink2URL: https://www.we-online.com/catalog/datasheet/744373560068.pdf; Mounting Technology: SMT; Operating Temperature: -40 to +125degC; Packaging: Tape and Reel; Inductance: 0.68uH; Rated Current: 14A; Size: 8030; Height: 3mm; Length: 9.2mm; Width: 8.5mm
footprint WE-LHMI_8030
pins: 1, 2

## 744373560082
designator L?, comment 0.82uH, 13.5A
WE-LHMI SMT Power Inductor, size 8030, 0.82uH, 13.5A; Manufacturer: Wurth Elektronik; Manufacturer Part Number: 744373560082; Self Resonant Frequency: 51MHz; DC Resistance typ.: 4.2mOhm; DC Resistance max.: 4.87mOhm; Saturation Current @10%: 19.3A; Saturation Current @30%: 40.9A; ComponentLink1Description: Manufacturer; ComponentLink1URL: http://www.we-online.de; ComponentLink2Description: Datasheet; ComponentLink2URL: https://www.we-online.com/catalog/datasheet/744373560082.pdf; Mounting Technology: SMT; Operating Temperature: -40 to +125degC; Packaging: Tape and Reel; Inductance: 0.82uH; Rated Current: 13.5A; Size: 8030; Height: 3mm; Length: 9.2mm; Width: 8.5mm
footprint WE-LHMI_8030
pins: 1, 2

## 744373580022
designator L?, comment 0.22uH, 22.5A
WE-LHMI SMT Power Inductor, size 8040, 0.22uH, 22.5A; Manufacturer: Wurth Elektronik; Manufacturer Part Number: 744373580022; Self Resonant Frequency: 145MHz; DC Resistance typ.: 0.87mOhm; DC Resistance max.: 1.35mOhm; Saturation Current @10%: 38.3A; Saturation Current @30%: 80.4A; ComponentLink1Description: Manufacturer; ComponentLink1URL: http://www.we-online.de; ComponentLink2Description: Datasheet; ComponentLink2URL: https://www.we-online.com/catalog/datasheet/744373580022.pdf; Mounting Technology: SMT; Operating Temperature: -40 to +125degC; Packaging: Tape and Reel; Inductance: 0.22uH; Rated Current: 22.5A; Size: 8040; Height: 4mm; Length: 9.2mm; Width: 8.5mm
footprint WE-LHMI_8040
pins: 1, 2

## 744373580033
designator L?, comment 0.33uH, 18.5A
WE-LHMI SMT Power Inductor, size 8040, 0.33uH, 18.5A; Manufacturer: Wurth Elektronik; Manufacturer Part Number: 744373580033; Self Resonant Frequency: 96MHz; DC Resistance typ.: 1.45mOhm; DC Resistance max.: 2.15mOhm; Saturation Current @10%: 31.4A; Saturation Current @30%: 67.2A; ComponentLink1Description: Manufacturer; ComponentLink1URL: http://www.we-online.de; ComponentLink2Description: Datasheet; ComponentLink2URL: https://www.we-online.com/catalog/datasheet/744373580033.pdf; Mounting Technology: SMT; Operating Temperature: -40 to +125degC; Packaging: Tape and Reel; Inductance: 0.33uH; Rated Current: 18.5A; Size: 8040; Height: 4mm; Length: 9.2mm; Width: 8.5mm
footprint WE-LHMI_8040
pins: 1, 2

## 744373580047
designator L?, comment 0.47uH, 18A
WE-LHMI SMT Power Inductor, size 8040, 0.47uH, 18A; Manufacturer: Wurth Elektronik; Manufacturer Part Number: 744373580047; Self Resonant Frequency: 82MHz; DC Resistance typ.: 1.68mOhm; DC Resistance max.: 2.38mOhm; Saturation Current @10%: 27.1A; Saturation Current @30%: 56.8A; ComponentLink1Description: Manufacturer; ComponentLink1URL: http://www.we-online.de; ComponentLink2Description: Datasheet; ComponentLink2URL: https://www.we-online.com/catalog/datasheet/744373580047.pdf; Mounting Technology: SMT; Operating Temperature: -40 to +125degC; Packaging: Tape and Reel; Inductance: 0.47uH; Rated Current: 18A; Size: 8040; Height: 4mm; Length: 9.2mm; Width: 8.5mm
footprint WE-LHMI_8040
pins: 1, 2